# EAGLE library part _BASE-SIP-14_ (library Base)
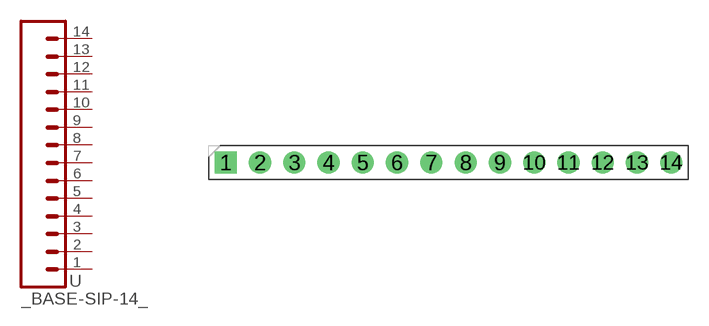
[diagram p2: symbol with the pads of HDRV14W63P254_14X1_3556X254H838; footprint HDRV14W63P254_14X1_3556X254H838]

Designator prefix -

## _BASE-SIP-14_2.54-SPACE-VERTICAL  [HDRV14W63P254_14X1_3556X254H838]
1  1  pas
2  2  pas
3  3  pas
4  4  pas
5  5  pas
6  6  pas
7  7  pas
8  8  pas
9  9  pas
10  10  pas
11  11  pas
12  12  pas
13  13  pas
14  14  pas

## Footprint HDRV14W63P254_14X1_3556X254H838 (pad centres in mm)
drill 1.1 pad 1.65 square: 1 0,0
drill 1.1 pad 1.65: 2 2.54,0; 3 5.08,0; 4 7.62,0; 5 10.16,0; 6 12.7,0; 7 15.24,0; 8 17.78,0; 9 20.32,0; 10 22.86,0; 11 25.4,0; 12 27.94,0; 13 30.48,0; 14 33.02,0